# Altium footprint library 10118194-0001LF.PcbLib: 2 footprints
Each footprint in its own frame and in the unit in brackets; x right, y up, seen from the top. Pads: shape width x height; smd on the part's side, far side on the other; paste and mask are expansions set on the pad; w line width, h text height; cw(c..) or ccw(c..) is an arc to the next point about the centre after c.
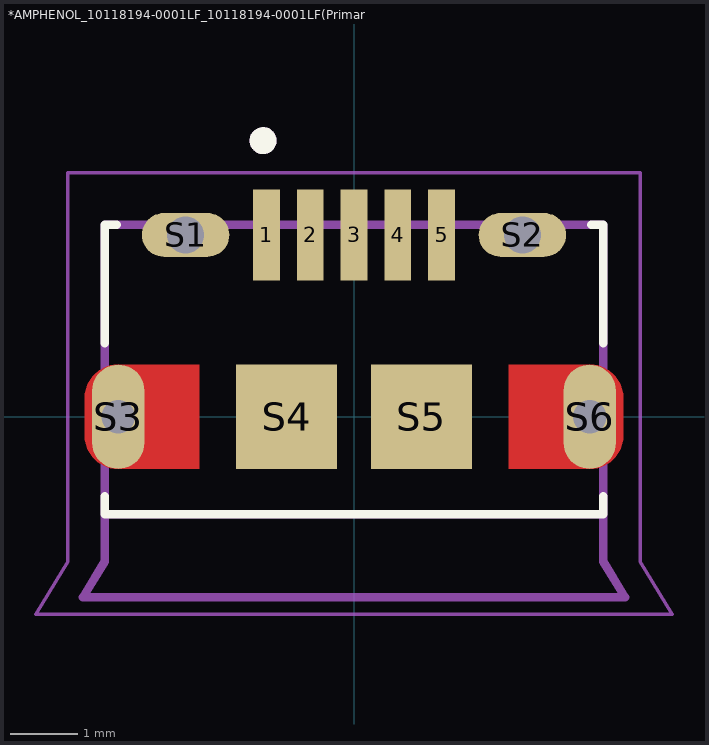
[diagram p0: the footprints below, top view; thin cyan lines are the x and y axes]

## *AMPHENOL_10118194-0001LF_10118194-0001LF(Primary) [mm]
pads (11):
  rect 0.4x1.35 smd: 1(-1.3,2.7) 2(-0.65,2.7) 3(0,2.7) 4(0.65,2.7) 5(1.3,2.7)
  oval 1.3x0.65 hole 0.55: S1(-2.5,2.7) S2(2.5,2.7)
  oval 0.775x1.55 hole 0.5: S3(-3.5,0) S6(3.5,0)
  rect 1.5x1.55 smd: S4(-1,0) S5(1,0)
Top Layer:
  region: 3.5,-0.775 3.5,-0.575 3.507,-0.575 3.52,-0.574 3.533,-0.573 3.546,-0.571 3.558,-0.568 3.571,-0.565 3.583,-0.561 3.596,-0.556 3.608,-0.551 3.619,-0.545 3.631,-0.538 3.642,-0.531 3.652,-0.523 3.662,-0.515 3.672,-0.506 3.681,-0.497 3.69,-0.487 3.698,-0.477 3.706,-0.467 3.713,-0.456 3.72,-0.444 3.726,-0.433 3.731,-0.421 3.736,-0.408 3.74,-0.396 3.743,-0.383 3.746,-0.371 3.748,-0.358 3.749,-0.345 3.75,-0.332 3.75,-0.325 3.75,0.325 3.75,0.332 3.749,0.345 3.748,0.358 3.746,0.371 3.743,0.383 3.74,0.396 3.736,0.408 3.731,0.421 3.726,0.433 3.72,0.444 3.713,0.456 3.706,0.467 3.698,0.477 3.69,0.487 3.681,0.497 3.672,0.506 3.662,0.515 3.652,0.523 3.642,0.531 3.631,0.538 3.619,0.545 3.608,0.551 3.596,0.556 3.583,0.561 3.571,0.565 3.558,0.568 3.546,0.571 3.533,0.573 3.52,0.574 3.507,0.575 3.5,0.575 3.5,0.775 3.513,0.775 3.539,0.774 3.565,0.771 3.591,0.767 3.617,0.761 3.642,0.755 3.667,0.746 3.691,0.737 3.715,0.726 3.739,0.715 3.761,0.701 3.783,0.687 3.804,0.672 3.825,0.655 3.844,0.638 3.863,0.619 3.88,0.6 3.897,0.579 3.912,0.558 3.926,0.536 3.94,0.514 3.951,0.49 3.962,0.466 3.971,0.442 3.98,0.417 3.986,0.392 3.992,0.366 3.996,0.34 3.999,0.314 4,0.288 4,0.275 4,-0.275 4,-0.288 3.999,-0.314 3.996,-0.34 3.992,-0.366 3.986,-0.392 3.98,-0.417 3.971,-0.442 3.962,-0.466 3.951,-0.49 3.94,-0.514 3.926,-0.536 3.912,-0.558 3.897,-0.579 3.88,-0.6 3.863,-0.619 3.844,-0.638 3.825,-0.655 3.804,-0.672 3.783,-0.687 3.761,-0.701 3.739,-0.715 3.715,-0.726 3.691,-0.737 3.667,-0.746 3.642,-0.755 3.617,-0.761 3.591,-0.767 3.565,-0.771 3.539,-0.774 3.513,-0.775
  region: 3.5,-0.775 3.5,-0.575 3.493,-0.575 3.48,-0.574 3.467,-0.573 3.454,-0.571 3.442,-0.568 3.429,-0.565 3.417,-0.561 3.404,-0.556 3.392,-0.551 3.381,-0.545 3.369,-0.538 3.358,-0.531 3.348,-0.523 3.338,-0.515 3.328,-0.506 3.319,-0.497 3.31,-0.487 3.302,-0.477 3.294,-0.467 3.287,-0.456 3.28,-0.444 3.274,-0.433 3.269,-0.421 3.264,-0.408 3.26,-0.396 3.257,-0.383 3.254,-0.371 3.252,-0.358 3.251,-0.345 3.25,-0.332 3.25,-0.325 3.25,0.325 3.25,0.332 3.251,0.345 3.252,0.358 3.254,0.371 3.257,0.383 3.26,0.396 3.264,0.408 3.269,0.421 3.274,0.433 3.28,0.444 3.287,0.456 3.294,0.467 3.302,0.477 3.31,0.487 3.319,0.497 3.328,0.506 3.338,0.515 3.348,0.523 3.358,0.531 3.369,0.538 3.381,0.545 3.392,0.551 3.404,0.556 3.417,0.561 3.429,0.565 3.442,0.568 3.454,0.571 3.467,0.573 3.48,0.574 3.493,0.575 3.5,0.575 3.5,0.775 2.3,0.775 2.3,-0.775
  region: -3.5,0.775 -3.5,0.575 -3.507,0.575 -3.52,0.574 -3.533,0.573 -3.546,0.571 -3.558,0.568 -3.571,0.565 -3.583,0.561 -3.596,0.556 -3.608,0.551 -3.619,0.545 -3.631,0.538 -3.642,0.531 -3.652,0.523 -3.662,0.515 -3.672,0.506 -3.681,0.497 -3.69,0.487 -3.698,0.477 -3.706,0.467 -3.713,0.456 -3.72,0.444 -3.726,0.433 -3.731,0.421 -3.736,0.408 -3.74,0.396 -3.743,0.383 -3.746,0.371 -3.748,0.358 -3.749,0.345 -3.75,0.332 -3.75,0.325 -3.75,-0.325 -3.75,-0.332 -3.749,-0.345 -3.748,-0.358 -3.746,-0.371 -3.743,-0.383 -3.74,-0.396 -3.736,-0.408 -3.731,-0.421 -3.726,-0.433 -3.72,-0.444 -3.713,-0.456 -3.706,-0.467 -3.698,-0.477 -3.69,-0.487 -3.681,-0.497 -3.672,-0.506 -3.662,-0.515 -3.652,-0.523 -3.642,-0.531 -3.631,-0.538 -3.619,-0.545 -3.608,-0.551 -3.596,-0.556 -3.583,-0.561 -3.571,-0.565 -3.558,-0.568 -3.546,-0.571 -3.533,-0.573 -3.52,-0.574 -3.507,-0.575 -3.5,-0.575 -3.5,-0.775 -3.513,-0.775 -3.539,-0.774 -3.565,-0.771 -3.591,-0.767 -3.617,-0.761 -3.642,-0.755 -3.667,-0.746 -3.691,-0.737 -3.715,-0.726 -3.739,-0.715 -3.761,-0.701 -3.783,-0.687 -3.804,-0.672 -3.825,-0.655 -3.844,-0.638 -3.863,-0.619 -3.88,-0.6 -3.897,-0.579 -3.912,-0.558 -3.926,-0.536 -3.94,-0.514 -3.951,-0.49 -3.962,-0.466 -3.971,-0.442 -3.98,-0.417 -3.986,-0.392 -3.992,-0.366 -3.996,-0.34 -3.999,-0.314 -4,-0.288 -4,-0.275 -4,0.275 -4,0.288 -3.999,0.314 -3.996,0.34 -3.992,0.366 -3.986,0.392 -3.98,0.417 -3.971,0.442 -3.962,0.466 -3.951,0.49 -3.94,0.514 -3.926,0.536 -3.912,0.558 -3.897,0.579 -3.88,0.6 -3.863,0.619 -3.844,0.638 -3.825,0.655 -3.804,0.672 -3.783,0.687 -3.761,0.701 -3.739,0.715 -3.715,0.726 -3.691,0.737 -3.667,0.746 -3.642,0.755 -3.617,0.761 -3.591,0.767 -3.565,0.771 -3.539,0.774 -3.513,0.775
  region: -3.5,0.775 -3.5,0.575 -3.493,0.575 -3.48,0.574 -3.467,0.573 -3.454,0.571 -3.442,0.568 -3.429,0.565 -3.417,0.561 -3.404,0.556 -3.392,0.551 -3.381,0.545 -3.369,0.538 -3.358,0.531 -3.348,0.523 -3.338,0.515 -3.328,0.506 -3.319,0.497 -3.31,0.487 -3.302,0.477 -3.294,0.467 -3.287,0.456 -3.28,0.444 -3.274,0.433 -3.269,0.421 -3.264,0.408 -3.26,0.396 -3.257,0.383 -3.254,0.371 -3.252,0.358 -3.251,0.345 -3.25,0.332 -3.25,0.325 -3.25,-0.325 -3.25,-0.332 -3.251,-0.345 -3.252,-0.358 -3.254,-0.371 -3.257,-0.383 -3.26,-0.396 -3.264,-0.408 -3.269,-0.421 -3.274,-0.433 -3.28,-0.444 -3.287,-0.456 -3.294,-0.467 -3.302,-0.477 -3.31,-0.487 -3.319,-0.497 -3.328,-0.506 -3.338,-0.515 -3.348,-0.523 -3.358,-0.531 -3.369,-0.538 -3.381,-0.545 -3.392,-0.551 -3.404,-0.556 -3.417,-0.561 -3.429,-0.565 -3.442,-0.568 -3.454,-0.571 -3.467,-0.573 -3.48,-0.574 -3.493,-0.575 -3.5,-0.575 -3.5,-0.775 -2.3,-0.775 -2.3,0.775
  lines w0: -3.5,0.6 -3.5,0.77 ; 3.5,-0.77 3.5,-0.6
Top Overlay:
  circle w0.2: c-1.35,4.1 r0.1
  lines w0.127: -3.7,-1.18 -3.7,-1.45 3.7,-1.45 3.7,-1.18 ; -3.7,1.095 -3.7,2.85 -3.52,2.85 ; 3.52,2.85 3.7,2.85 3.7,1.095
Top Paste:
  drawing of 6 lines, arcs and shapes, not listed
Top Solder:
  region: 3.6,-0.875 2.2,-0.875 2.2,0.875 3.6,0.875 3.613,0.875 3.639,0.874 3.665,0.871 3.691,0.867 3.717,0.861 3.742,0.855 3.767,0.846 3.791,0.837 3.815,0.826 3.839,0.815 3.861,0.801 3.883,0.787 3.904,0.772 3.925,0.755 3.944,0.738 3.963,0.719 3.98,0.7 3.997,0.679 4.012,0.658 4.026,0.636 4.04,0.614 4.051,0.59 4.062,0.566 4.071,0.542 4.08,0.517 4.086,0.492 4.092,0.466 4.096,0.44 4.099,0.414 4.1,0.388 4.1,0.375 4.1,-0.375 4.1,-0.388 4.099,-0.414 4.096,-0.44 4.092,-0.466 4.086,-0.492 4.08,-0.517 4.071,-0.542 4.062,-0.566 4.051,-0.59 4.04,-0.614 4.026,-0.636 4.012,-0.658 3.997,-0.679 3.98,-0.7 3.963,-0.719 3.944,-0.738 3.925,-0.755 3.904,-0.772 3.883,-0.787 3.861,-0.801 3.839,-0.815 3.815,-0.826 3.791,-0.837 3.767,-0.846 3.742,-0.855 3.717,-0.861 3.691,-0.867 3.665,-0.871 3.639,-0.874 3.613,-0.875
  region: -3.6,0.875 -2.2,0.875 -2.2,-0.875 -3.6,-0.875 -3.613,-0.875 -3.639,-0.874 -3.665,-0.871 -3.691,-0.867 -3.717,-0.861 -3.742,-0.855 -3.767,-0.846 -3.791,-0.837 -3.815,-0.826 -3.839,-0.815 -3.861,-0.801 -3.883,-0.787 -3.904,-0.772 -3.925,-0.755 -3.944,-0.738 -3.963,-0.719 -3.98,-0.7 -3.997,-0.679 -4.012,-0.658 -4.026,-0.636 -4.04,-0.614 -4.051,-0.59 -4.062,-0.566 -4.071,-0.542 -4.08,-0.517 -4.086,-0.492 -4.092,-0.466 -4.096,-0.44 -4.099,-0.414 -4.1,-0.388 -4.1,-0.375 -4.1,0.375 -4.1,0.388 -4.099,0.414 -4.096,0.44 -4.092,0.466 -4.086,0.492 -4.08,0.517 -4.071,0.542 -4.062,0.566 -4.051,0.59 -4.04,0.614 -4.026,0.636 -4.012,0.658 -3.997,0.679 -3.98,0.7 -3.963,0.719 -3.944,0.738 -3.925,0.755 -3.904,0.772 -3.883,0.787 -3.861,0.801 -3.839,0.815 -3.815,0.826 -3.791,0.837 -3.767,0.846 -3.742,0.855 -3.717,0.861 -3.691,0.867 -3.665,0.871 -3.639,0.874 -3.613,0.875
Mechanical 1:
  lines w0: -3.75,-0.325 ccw(c-3.5,-0.325) -3.25,-0.325 -3.25,0.325 ccw(c-3.5,0.325) -3.75,0.325 -3.75,-0.325 ; -2.65,2.425 cw(c-2.65,2.7) -2.65,2.975 -2.35,2.975 cw(c-2.35,2.7) -2.35,2.425 -2.65,2.425 ; 2.35,2.425 cw(c2.35,2.7) 2.35,2.975 2.65,2.975 cw(c2.65,2.7) 2.65,2.425 2.35,2.425 ; 3.25,-0.325 ccw(c3.5,-0.325) 3.75,-0.325 3.75,0.325 ccw(c3.5,0.325) 3.25,0.325 3.25,-0.325
Mechanical 4:
  circle w0.2: c-1.35,4.1 r0.1
  circle w0.2: c-1.35,4.1 r0.1
  lines w0.127: -4.025,-2.68 4.025,-2.68 ; -4.025,-2.68 -3.7,-2.15 ; -4.025,-2.68 4.025,-2.68 ; -4.025,-2.68 -3.7,-2.15 ; -3.7,-2.15 -3.7,-1.45 ; -3.7,-2.15 -3.7,-1.45 ; -3.7,-1.45 -3.7,2.85 ; -3.7,-1.45 3.7,-1.45 ; -3.7,-1.45 -3.7,2.85 ; -3.7,-1.45 3.7,-1.45 ; -3.7,2.85 3.7,2.85 ; -3.7,2.85 3.7,2.85 ; 3.7,-2.15 3.7,-1.45 ; 3.7,-2.15 4.025,-2.68 ; 3.7,-2.15 3.7,-1.45 ; 3.7,-2.15 4.025,-2.68 ; 3.7,-1.45 3.7,2.85 ; 3.7,-1.45 3.7,2.85
  text "PCB END" at -1.95,-2.35 h1.88
  text "PCB END" at -1.95,-2.35 h1.88
Mechanical 16:
  lines w0.05: -4.725,-2.93 -4.25,-2.15 -4.25,3.625 4.25,3.625 4.25,-2.15 4.725,-2.93 -4.725,-2.93

## PCBComponent_1 [mm]